# Altium schematic symbol library Kontakts.SchLib: 1 symbol
Pins are listed as number, name and electrical type; pins without a type are passive.

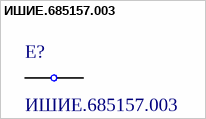
[diagram p0: symbol ИШИЕ.685157.003]

## ИШИЕ.685157.003
designator E?
ValueSch: ИШИЕ.685157.003
pins: 1 E1, 2 E2